# Altium schematic symbol library TC1-1-13M.SchLib: 1 symbol
Pins are listed as number, name and electrical type; pins without a type are passive.

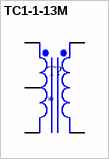
[diagram p0: symbol TC1-1-13M]

## TC1-1-13M
designator T?
TC1-1-13M RF Transformer; ComponentLink1URL: http://www.minicircuits.com/pdfs/TC1-1-13M.pdf; ComponentLink1Description: Datasheet
footprint SOP6
pins: 1 PDOT (io), 2 NC, 3 SEC (io), 4 PRI (io), 5 SDOT (io)